# Altium schematic symbol library MCP14E7.SchLib: 1 symbol
Pins are listed as number, name and electrical type; pins without a type are passive.

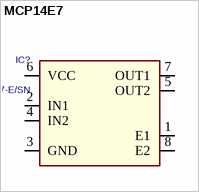
[diagram p0: symbol MCP14E7]

## MCP14E7
designator IC?, comment MCP14E7-E/SN
BUY_LINK: http://www.digikey.com/product-detail/en/MCP14E7-E%2FSN/MCP14E7-E%2FSN-ND/2664962; PDF: http://www.microchip.com/mymicrochip/filehandler.aspx?ddocname=en553380; ID: MCP14E7-E/SN; PRICE: 2.16000
footprint SO8
pins: 1 E1, 2 IN1, 3 GND, 4 IN2, 5 OUT2, 6 VCC, 7 OUT1, 8 E2